# Altium schematic symbol library EVALBRD.SchLib: 10 symbols
Pins are listed as number, name and electrical type; pins without a type are passive.

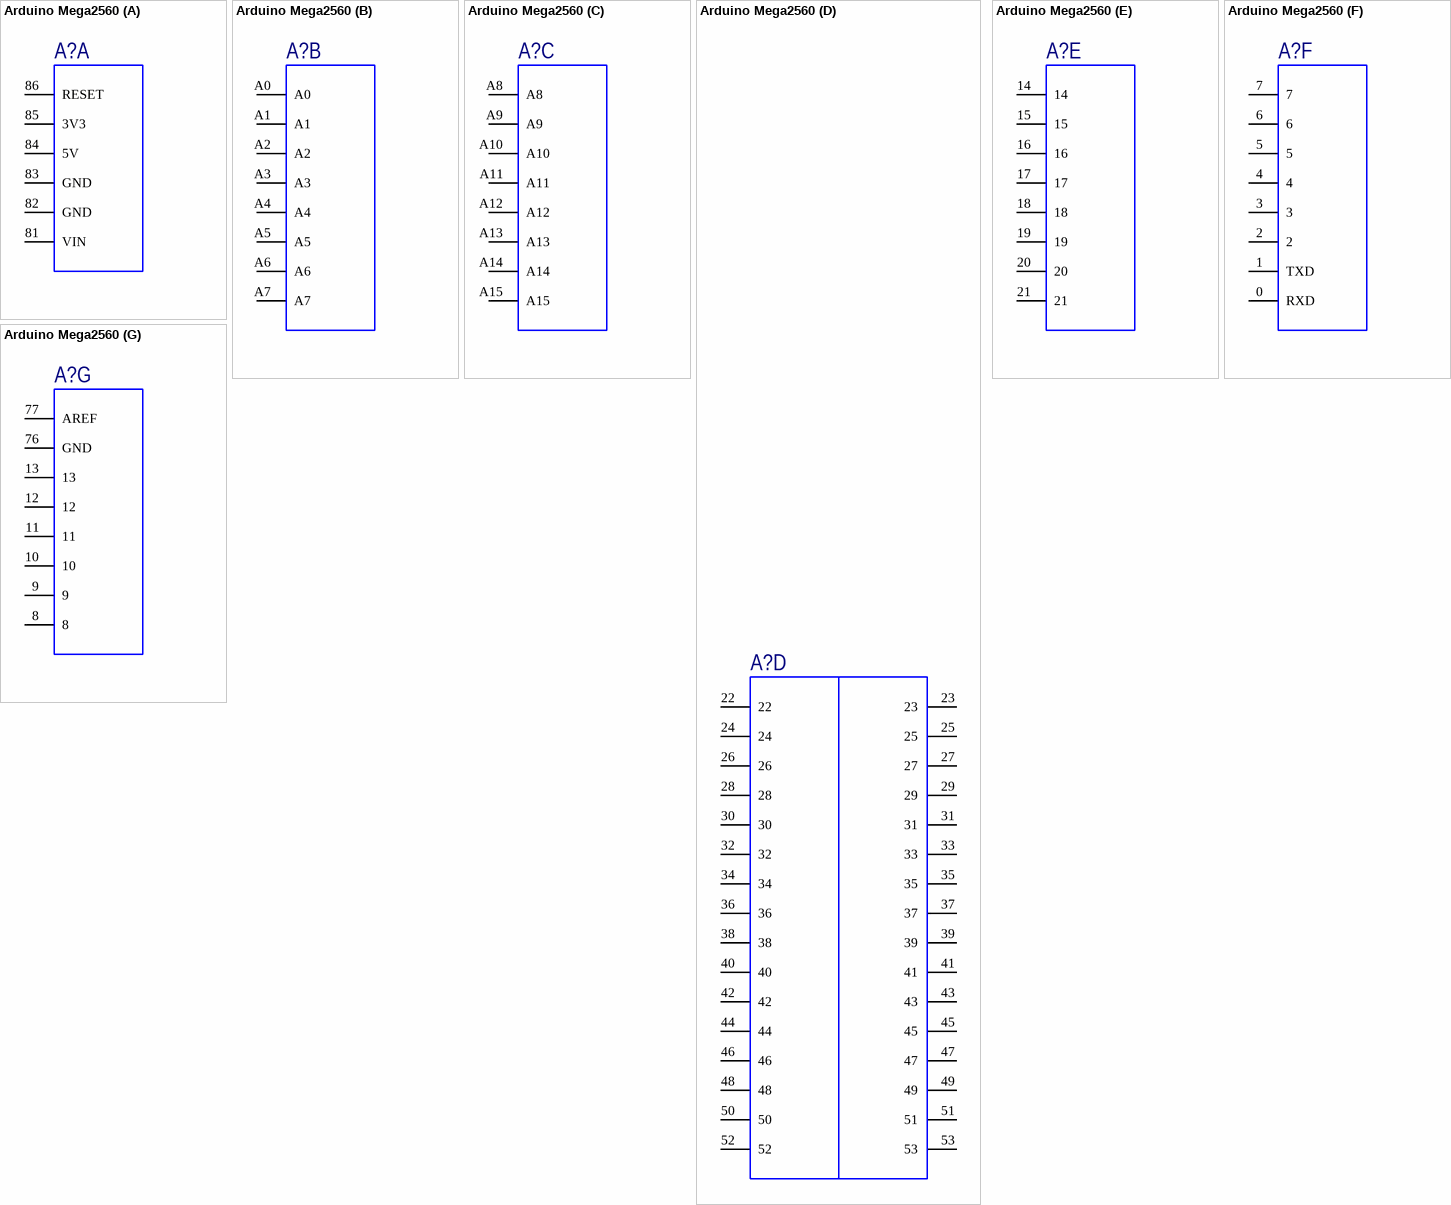
[diagram p0: symbol Arduino Mega2560]

## Arduino Mega2560
designator A?
Arduino Mega2560; TH: 1; Manufacturer: Arduino; Manufacturer Part Number: Arduino Mega2560
footprint ARDUINO_MEGA2560
part A pins: 81 VIN, 82 GND, 83 GND, 84 5V, 85 3V3, 86 RESET
part B pins: A0, A1, A2, A3, A4, A5, A6, A7
part C pins: A8, A9, A10, A11, A12, A13, A14, A15
part D pins: 22, 23, 24, 25, 26, 27, 28, 29, 30, 31, 32, 33, 34, 35, 36, 37, 38, 39, 40, 41, 42, 43, 44, 45, 46, 47, 48, 49, 50, 51, 52, 53
part E pins: 14, 15, 16, 17, 18, 19, 20, 21
part F pins: 0 RXD, 1 TXD, 2, 3, 4, 5, 6, 7
part G pins: 8, 9, 10, 11, 12, 13, 76 GND, 77 AREF

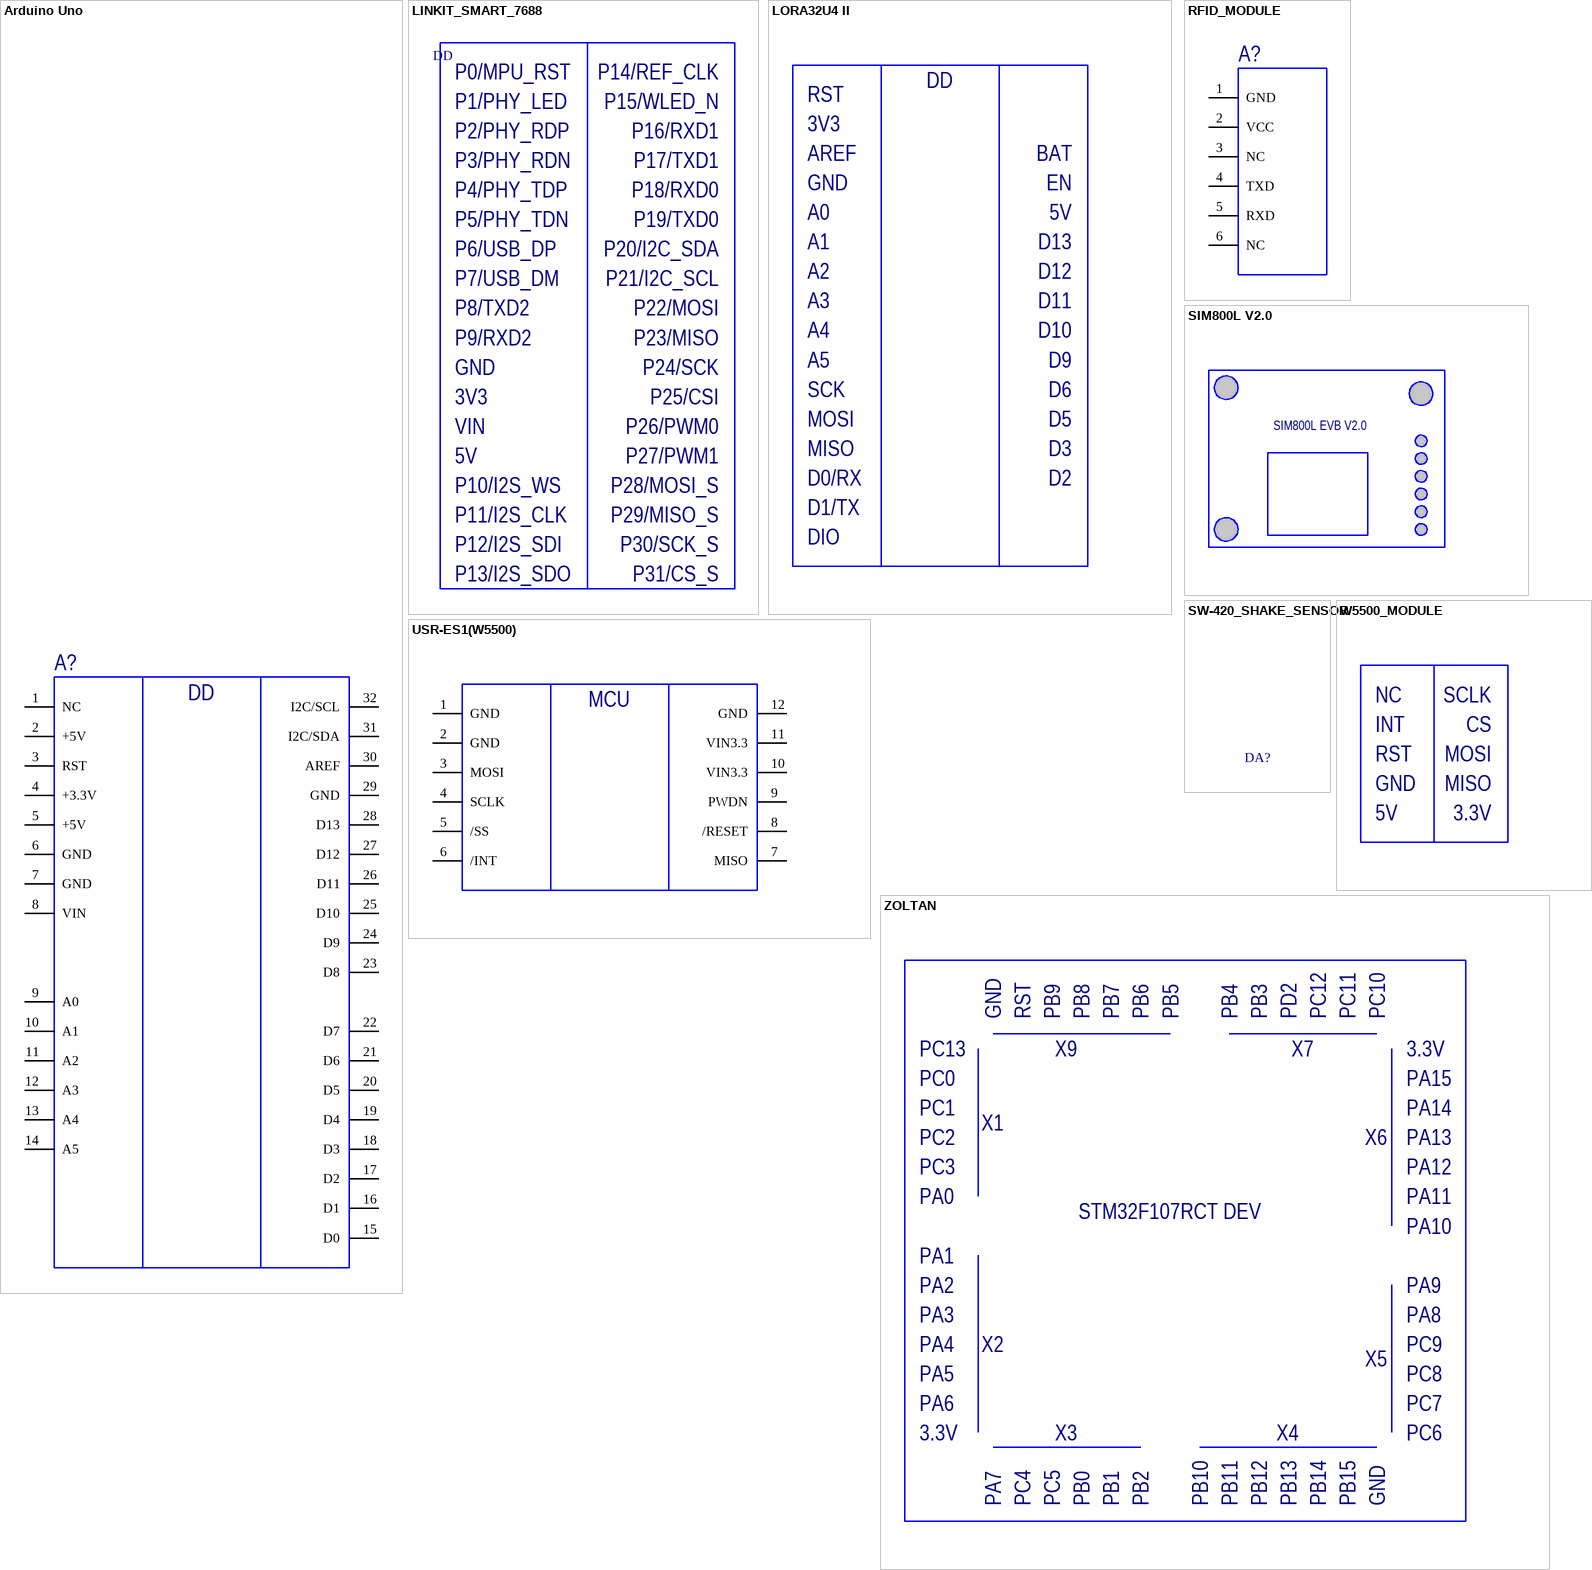
[diagram p1: symbols Arduino Uno to ZOLTAN]

## Arduino Uno
designator A?
Arduino Uno; TH: 1; Manufacturer: Arduino; Manufacturer Part Number: Arduino Uno
footprint ARDUINO_UNO
pins: 1 NC, 2 +5V, 3 RST, 4 +3.3V, 5 +5V, 6 GND, 7 GND, 8 VIN, 9 A0, 10 A1, 11 A2, 12 A3, 13 A4, 14 A5, 15 D0, 16 D1, 17 D2, 18 D3, 19 D4, 20 D5, 21 D6, 22 D7, 23 D8, 24 D9, 25 D10, 26 D11, 27 D12, 28 D13, 29 GND, 30 AREF, 31 I2C/SDA, 32 I2C/SCL
text: DD

## LINKIT_SMART_7688
designator DD  (value not drawn)  (mechanical)
WiFi Development Tools (802.11) LinkIt Smart 7688; Manufacturer: Seeed Studio; Manufacturer Part Number: 102110018
footprint LINKIT_SMART_7688
text: P0/MPU_RST; P14/REF_CLK; P1/PHY_LED; P15/WLED_N; P2/PHY_RDP; P16/RXD1; P3/PHY_RDN; P17/TXD1; P4/PHY_TDP; P18/RXD0; P5/PHY_TDN; P19/TXD0; P6/USB_DP; P20/I2C_SDA; P7/USB_DM; P21/I2C_SCL; P8/TXD2; P22/MOSI; P9/RXD2; P23/MISO; GND; P24/SCK; 3V3; P25/CSI; VIN; P26/PWM0; 5V; P27/PWM1; P10/I2S_WS; P28/MOSI_S; P11/I2S_CLK; P29/MISO_S; P12/I2S_SDI; P30/SCK_S; P13/I2S_SDO; P31/CS_S

## LORA32U4 II
designator A?
LORA 32U4 II 868MHZ; Manufacturer: BSFrance; Manufacturer Part Number: Lora32U4 II ver 1.2; TH: 1
footprint LORA32U4 II
footprint LORA32U4 II - withoutHole
text: RST; DD; 3V3; AREF; BAT; GND; EN; A0; 5V; A1; D13; A2; D12; A3; D11; A4; D10; A5; D9; SCK; D6; MOSI; D5; MISO; D3; D0/RX; D2; D1/TX; DIO

## RFID_MODULE
designator A?
RFID MODULE; TH: 1
footprint RFID_MODULE
pins: 1 GND, 2 VCC, 3 NC, 4 TXD, 5 RXD, 6 NC

## SIM800L V2.0
designator DD?
GSM GPRS; Manufacturer Part Number: SIM800L V2.0 MODULE; Manufacturer: China; Link: https://ru.aliexpress.com/item/32811370811.html
footprint SIM800L_EVB
text: SIM800L EVB V2.0

## SW-420_SHAKE_SENSOR
designator DA?  (mechanical)
SHAKE SENSOR MODULE; Manufacturer Part Number: SW-420; Manufacturer: China; TH: 1

## USR-ES1(W5500)
designator DD?
W5500 ETHERNET MODULE; Manufacturer: USR IOT; Manufacturer Part Number: USR-ES1
footprint USR-ES1(W5500)
pins: 1 GND, 2 GND, 3 MOSI, 4 SCLK, 5 /SS, 6 /INT, 7 MISO, 8 /RESET, 9 PWDN, 10 VIN3.3, 11 VIN3.3, 12 GND
text: MCU

## W5500_MODULE
designator A?
W5500 ETHERNET MODULE; Manufacturer: Wiznet; Manufacturer Part Number: W5500Module
footprint W5500_MODULE
text: NC; SCLK; INT; CS; RST; MOSI; GND; MISO; 5V; 3.3V

## ZOLTAN
designator A?
STM32F107RCT DEVBRD; Manufacturer: Sergek; TH: 1
footprint ZOLTAN
text: GND; RST; PB9; PB8; PB7; PB6; PB5; PB4; PB3; PD2; PC12; PC11; PC10; PC13; X9; X7; 3.3V; PC0; PA15; PC1; PA14; X1; PC2; X6; PA13; PC3; PA12; PA0; PA11; STM32F107RCT DEV; PA10; PA1; PA2; PA9; PA3; PA8; PA4; X2; PC9; X5; PA5; PC8; PA6; PC7; X3; X4; PC6; PA7; PC4; PC5; PB0; PB1; PB2; PB10; PB11; PB12; PB13; PB14; PB15